# Altium schematic symbol library MP3V5050V.SchLib: 1 symbol
Pins are listed as number, name and electrical type; pins without a type are passive.

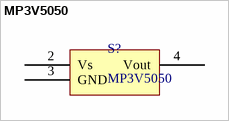
[diagram p0: symbol MP3V5050]

## MP3V5050
designator S?
Integrated Silicon Pressure Sensor On-Chip Signal Conditioned, Temperature Compensated and Calibrated; Componente: MP3V5050 Series; Fabricante: Freescale Semiconductor; Fecha de Fabricación: Rev 1, 11/2009; Devices: MP3V5050DP/GP/GC6U/GC6T1; Autor: ROUX, Federico G.(rouxfederico@gmail.com); Rango de Presión: 0 a 50kPa; VCC: 2.7-3.3Vdc; Fecha: 04.07.2011; URL: http://www.freescale.com/
footprint MP3V5050GP (MP3V5050-CASE 1369-01 Freescale Semiconductor)
footprint MP3V5050GC6U/6T1 (MP3V5050GC6U/6T1 CASE 482A-01 Freescale Semiconductor)
pins: 1 N/C hidden to 1, 2 Vs, 3 GND, 4 Vout, 5 N/C hidden to 5, 6 N/C hidden to 6, 7 N/C hidden to 7, 8 N/C hidden to 8